# Altium schematic symbol library SCH - MCU - STM32 - ST MICROELECTRONICS STM32F746Z(E-G)YX WLCSP143.SchLib: 1 symbol
Pins are listed as number, name and electrical type; pins without a type are passive.

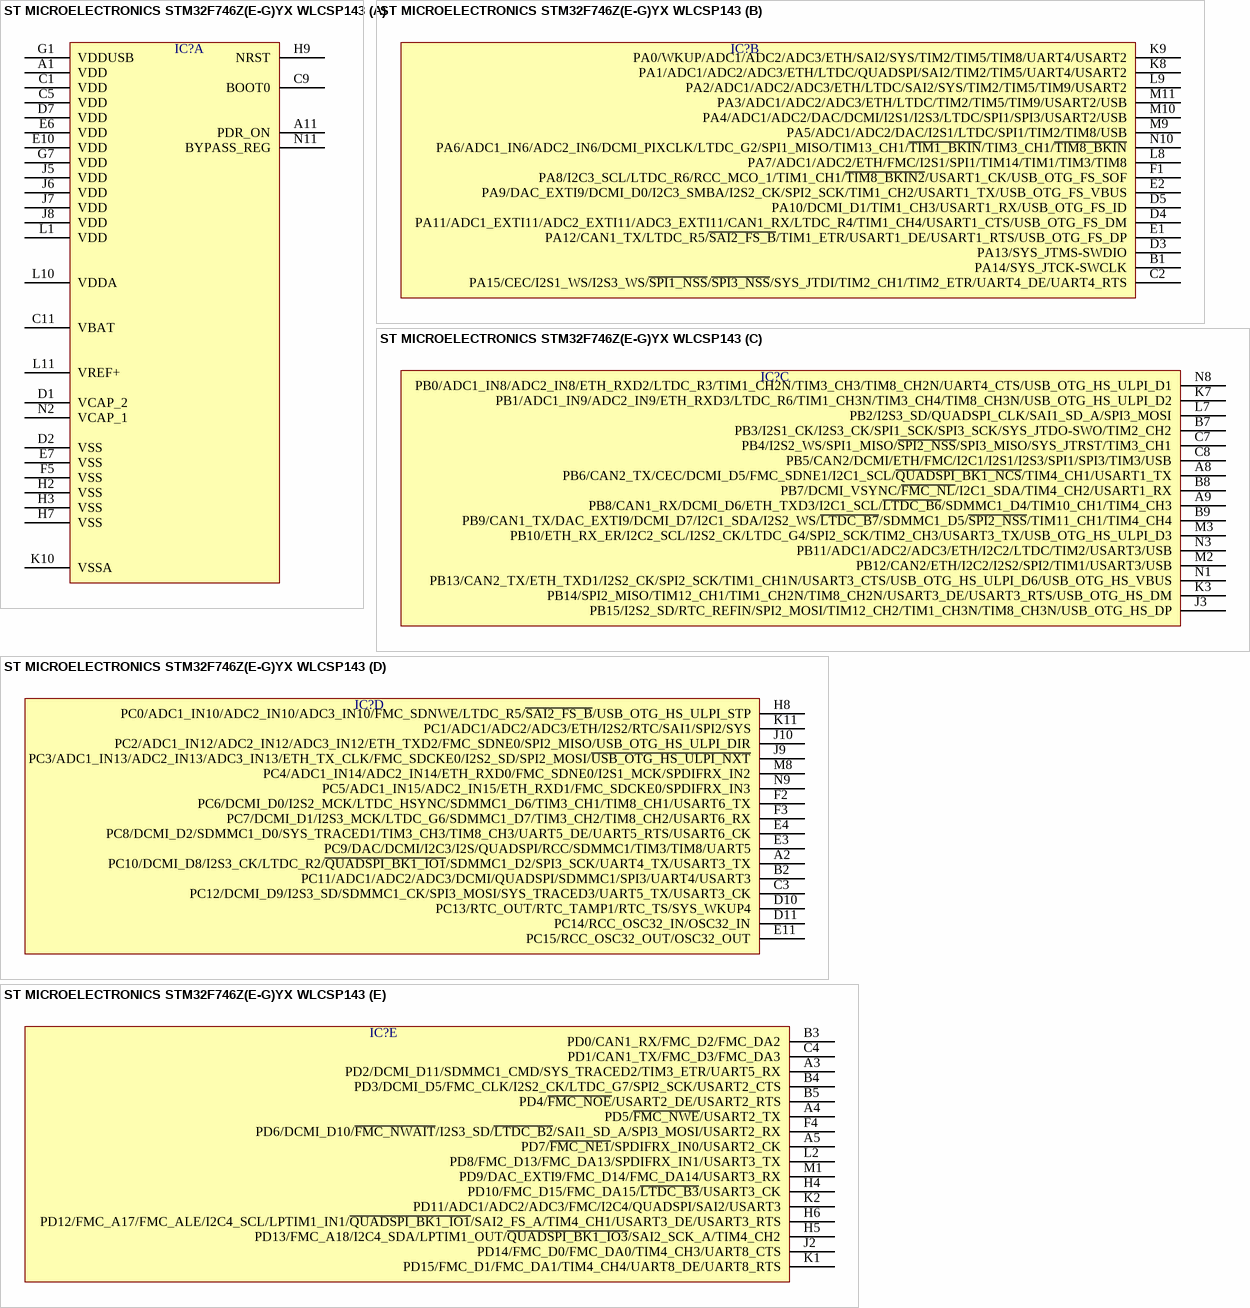
[diagram p0: symbol ST MICROELECTRONICS STM32F746Z(E-G)YX WLCSP143]

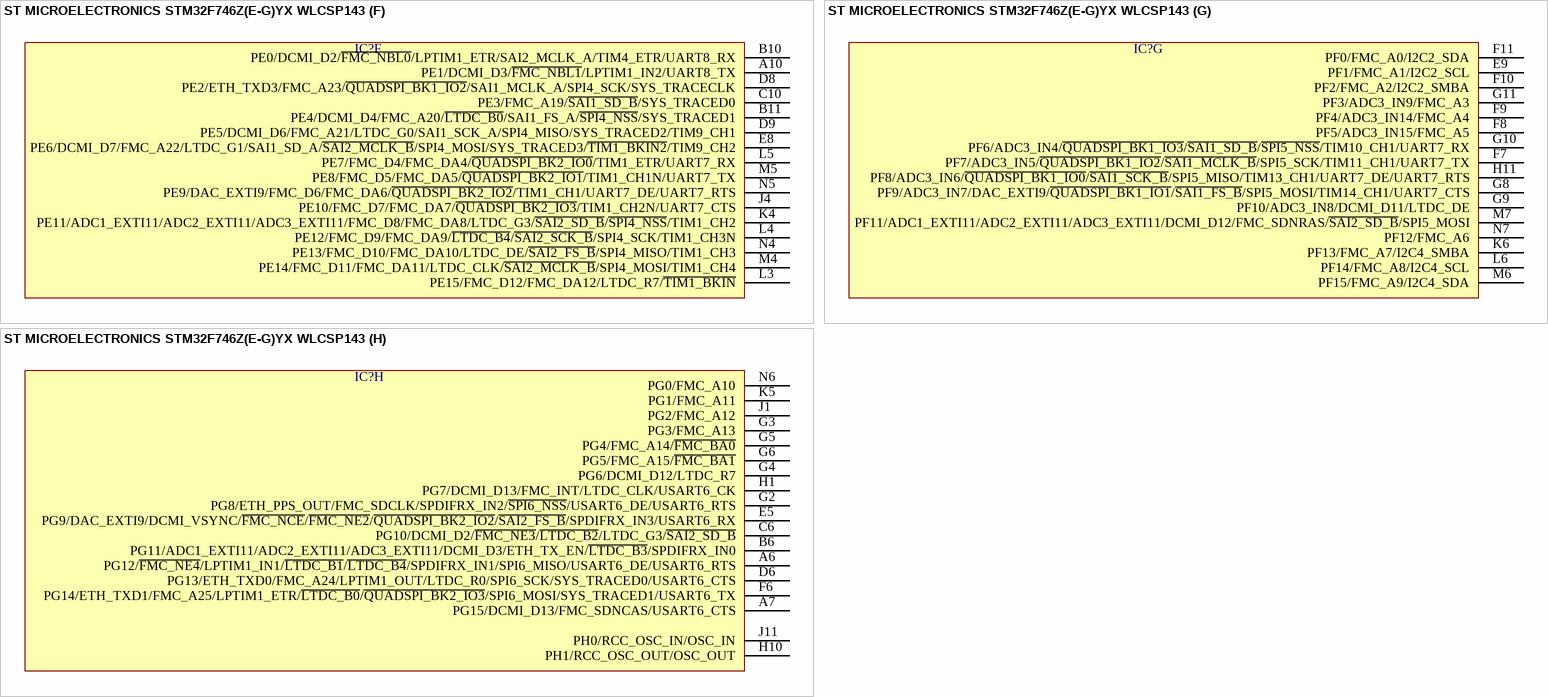
[diagram p1: symbol ST MICROELECTRONICS STM32F746Z(E-G)YX WLCSP143]

## ST MICROELECTRONICS STM32F746Z(E-G)YX WLCSP143
designator IC?  (value not drawn)
part A pins: A1 VDD, A11 PDR_ON, C1 VDD, C5 VDD, C9 BOOT0, C11 VBAT, D1 VCAP_2, D2 VSS, D7 VDD, E6 VDD, E7 VSS, E10 VDD, F5 VSS, G1 VDDUSB, G7 VDD, H2 VSS, H3 VSS, H7 VSS, H9 NRST, J5 VDD, J6 VDD, J7 VDD, J8 VDD, K10 VSSA, L1 VDD, L10 VDDA, L11 VREF+, N2 VCAP_1, N11 BYPASS_REG
part B pins: B1 PA14/SYS_JTCK-SWCLK, C2 PA15/CEC/I2S1_WS/I2S3_WS/~{SPI1_NSS}/~{SPI3_NSS}/SYS_JTDI/TIM2_CH1/TIM2_ETR/UART4_DE/UART4_RTS, D3 PA13/SYS_JTMS-SWDIO, D4 PA11/ADC1_EXTI11/ADC2_EXTI11/ADC3_EXTI11/CAN1_RX/LTDC_R4/TIM1_CH4/USART1_CTS/USB_OTG_FS_DM, D5 PA10/DCMI_D1/TIM1_CH3/USART1_RX/USB_OTG_FS_ID, E1 PA12/CAN1_TX/LTDC_R5/~{SAI2_FS_B}/TIM1_ETR/USART1_DE/USART1_RTS/USB_OTG_FS_DP, E2 PA9/DAC_EXTI9/DCMI_D0/I2C3_SMBA/I2S2_CK/SPI2_SCK/TIM1_CH2/USART1_TX/USB_OTG_FS_VBUS, F1 PA8/I2C3_SCL/LTDC_R6/RCC_MCO_1/TIM1_CH1/~{TIM8_BKIN2}/USART1_CK/USB_OTG_FS_SOF, K8 PA1/ADC1/ADC2/ADC3/ETH/LTDC/QUADSPI/SAI2/TIM2/TIM5/UART4/USART2, K9 PA0/WKUP/ADC1/ADC2/ADC3/ETH/SAI2/SYS/TIM2/TIM5/TIM8/UART4/USART2, L8 PA7/ADC1/ADC2/ETH/FMC/I2S1/SPI1/TIM14/TIM1/TIM3/TIM8, L9 PA2/ADC1/ADC2/ADC3/ETH/LTDC/SAI2/SYS/TIM2/TIM5/TIM9/USART2, M9 PA5/ADC1/ADC2/DAC/I2S1/LTDC/SPI1/TIM2/TIM8/USB, M10 PA4/ADC1/ADC2/DAC/DCMI/I2S1/I2S3/LTDC/SPI1/SPI3/USART2/USB, M11 PA3/ADC1/ADC2/ADC3/ETH/LTDC/TIM2/TIM5/TIM9/USART2/USB, N10 PA6/ADC1_IN6/ADC2_IN6/DCMI_PIXCLK/LTDC_G2/SPI1_MISO/TIM13_CH1/~{TIM1_BKIN}/TIM3_CH1/~{TIM8_BKIN}
part C pins: A8 PB6/CAN2_TX/CEC/DCMI_D5/FMC_SDNE1/I2C1_SCL/~{QUADSPI_BK1_NCS}/TIM4_CH1/USART1_TX, A9 PB8/CAN1_RX/DCMI_D6/ETH_TXD3/I2C1_SCL/~{LTDC_B6}/SDMMC1_D4/TIM10_CH1/TIM4_CH3, B7 PB3/I2S1_CK/I2S3_CK/SPI1_SCK/SPI3_SCK/SYS_JTDO-SWO/TIM2_CH2, B8 PB7/DCMI_VSYNC/~{FMC_NL}/I2C1_SDA/TIM4_CH2/USART1_RX, B9 PB9/CAN1_TX/DAC_EXTI9/DCMI_D7/I2C1_SDA/I2S2_WS/~{LTDC_B7}/SDMMC1_D5/~{SPI2_NSS}/TIM11_CH1/TIM4_CH4, C7 PB4/I2S2_WS/SPI1_MISO/~{SPI2_NSS}/SPI3_MISO/SYS_JTRST/TIM3_CH1, C8 PB5/CAN2/DCMI/ETH/FMC/I2C1/I2S1/I2S3/SPI1/SPI3/TIM3/USB, J3 PB15/I2S2_SD/RTC_REFIN/SPI2_MOSI/TIM12_CH2/TIM1_CH3N/TIM8_CH3N/USB_OTG_HS_DP, K3 PB14/SPI2_MISO/TIM12_CH1/TIM1_CH2N/TIM8_CH2N/USART3_DE/USART3_RTS/USB_OTG_HS_DM, K7 PB1/ADC1_IN9/ADC2_IN9/ETH_RXD3/LTDC_R6/TIM1_CH3N/TIM3_CH4/TIM8_CH3N/USB_OTG_HS_ULPI_D2, L7 PB2/I2S3_SD/QUADSPI_CLK/SAI1_SD_A/SPI3_MOSI, M2 PB12/CAN2/ETH/I2C2/I2S2/SPI2/TIM1/USART3/USB, M3 PB10/ETH_RX_ER/I2C2_SCL/I2S2_CK/LTDC_G4/SPI2_SCK/TIM2_CH3/USART3_TX/USB_OTG_HS_ULPI_D3, N1 PB13/CAN2_TX/ETH_TXD1/I2S2_CK/SPI2_SCK/TIM1_CH1N/USART3_CTS/USB_OTG_HS_ULPI_D6/USB_OTG_HS_VBUS, N3 PB11/ADC1/ADC2/ADC3/ETH/I2C2/LTDC/TIM2/USART3/USB, N8 PB0/ADC1_IN8/ADC2_IN8/ETH_RXD2/LTDC_R3/TIM1_CH2N/TIM3_CH3/TIM8_CH2N/UART4_CTS/USB_OTG_HS_ULPI_D1
part D pins: A2 PC10/DCMI_D8/I2S3_CK/LTDC_R2/~{QUADSPI_BK1_IO1}/SDMMC1_D2/SPI3_SCK/UART4_TX/USART3_TX, B2 PC11/ADC1/ADC2/ADC3/DCMI/QUADSPI/SDMMC1/SPI3/UART4/USART3, C3 PC12/DCMI_D9/I2S3_SD/SDMMC1_CK/SPI3_MOSI/SYS_TRACED3/UART5_TX/USART3_CK, D10 PC13/RTC_OUT/RTC_TAMP1/RTC_TS/SYS_WKUP4, D11 PC14/RCC_OSC32_IN/OSC32_IN, E3 PC9/DAC/DCMI/I2C3/I2S/QUADSPI/RCC/SDMMC1/TIM3/TIM8/UART5, E4 PC8/DCMI_D2/SDMMC1_D0/SYS_TRACED1/TIM3_CH3/TIM8_CH3/UART5_DE/UART5_RTS/USART6_CK, E11 PC15/RCC_OSC32_OUT/OSC32_OUT, F2 PC6/DCMI_D0/I2S2_MCK/LTDC_HSYNC/SDMMC1_D6/TIM3_CH1/TIM8_CH1/USART6_TX, F3 PC7/DCMI_D1/I2S3_MCK/LTDC_G6/SDMMC1_D7/TIM3_CH2/TIM8_CH2/USART6_RX, H8 PC0/ADC1_IN10/ADC2_IN10/ADC3_IN10/FMC_SDNWE/LTDC_R5/~{SAI2_FS_B}/USB_OTG_HS_ULPI_STP, J9 PC3/ADC1_IN13/ADC2_IN13/ADC3_IN13/ETH_TX_CLK/FMC_SDCKE0/I2S2_SD/SPI2_MOSI/~{USB_OTG_HS_ULPI_NXT}, J10 PC2/ADC1_IN12/ADC2_IN12/ADC3_IN12/ETH_TXD2/FMC_SDNE0/SPI2_MISO/USB_OTG_HS_ULPI_DIR, K11 PC1/ADC1/ADC2/ADC3/ETH/I2S2/RTC/SAI1/SPI2/SYS, M8 PC4/ADC1_IN14/ADC2_IN14/ETH_RXD0/FMC_SDNE0/I2S1_MCK/SPDIFRX_IN2, N9 PC5/ADC1_IN15/ADC2_IN15/ETH_RXD1/FMC_SDCKE0/SPDIFRX_IN3
part E pins: A3 PD2/DCMI_D11/SDMMC1_CMD/SYS_TRACED2/TIM3_ETR/UART5_RX, A4 PD5/~{FMC_NWE}/USART2_TX, A5 PD7/~{FMC_NE1}/SPDIFRX_IN0/USART2_CK, B3 PD0/CAN1_RX/FMC_D2/FMC_DA2, B4 PD3/DCMI_D5/FMC_CLK/I2S2_CK/LTDC_G7/SPI2_SCK/USART2_CTS, B5 PD4/~{FMC_NOE}/USART2_DE/USART2_RTS, C4 PD1/CAN1_TX/FMC_D3/FMC_DA3, F4 PD6/DCMI_D10/~{FMC_NWAIT}/I2S3_SD/~{LTDC_B2}/SAI1_SD_A/SPI3_MOSI/USART2_RX, H4 PD10/FMC_D15/FMC_DA15/~{LTDC_B3}/USART3_CK, H5 PD13/FMC_A18/I2C4_SDA/LPTIM1_OUT/~{QUADSPI_BK1_IO3}/SAI2_SCK_A/TIM4_CH2, H6 PD12/FMC_A17/FMC_ALE/I2C4_SCL/LPTIM1_IN1/~{QUADSPI_BK1_IO1}/SAI2_FS_A/TIM4_CH1/USART3_DE/USART3_RTS, J2 PD14/FMC_D0/FMC_DA0/TIM4_CH3/UART8_CTS, K1 PD15/FMC_D1/FMC_DA1/TIM4_CH4/UART8_DE/UART8_RTS, K2 PD11/ADC1/ADC2/ADC3/FMC/I2C4/QUADSPI/SAI2/USART3, L2 PD8/FMC_D13/FMC_DA13/SPDIFRX_IN1/USART3_TX, M1 PD9/DAC_EXTI9/FMC_D14/FMC_DA14/USART3_RX
part F pins: A10 PE1/DCMI_D3/~{FMC_NBL1}/LPTIM1_IN2/UART8_TX, B10 PE0/DCMI_D2/~{FMC_NBL0}/LPTIM1_ETR/SAI2_MCLK_A/TIM4_ETR/UART8_RX, B11 PE4/DCMI_D4/FMC_A20/~{LTDC_B0}/SAI1_FS_A/~{SPI4_NSS}/SYS_TRACED1, C10 PE3/FMC_A19/~{SAI1_SD_B}/SYS_TRACED0, D8 PE2/ETH_TXD3/FMC_A23/~{QUADSPI_BK1_IO2}/SAI1_MCLK_A/SPI4_SCK/SYS_TRACECLK, D9 PE5/DCMI_D6/FMC_A21/LTDC_G0/SAI1_SCK_A/SPI4_MISO/SYS_TRACED2/TIM9_CH1, E8 PE6/DCMI_D7/FMC_A22/LTDC_G1/SAI1_SD_A/~{SAI2_MCLK_B}/SPI4_MOSI/SYS_TRACED3/~{TIM1_BKIN2}/TIM9_CH2, J4 PE10/FMC_D7/FMC_DA7/~{QUADSPI_BK2_IO3}/TIM1_CH2N/UART7_CTS, K4 PE11/ADC1_EXTI11/ADC2_EXTI11/ADC3_EXTI11/FMC_D8/FMC_DA8/LTDC_G3/~{SAI2_SD_B}/~{SPI4_NSS}/TIM1_CH2, L3 PE15/FMC_D12/FMC_DA12/LTDC_R7/~{TIM1_BKIN}, L4 PE12/FMC_D9/FMC_DA9/~{LTDC_B4}/~{SAI2_SCK_B}/SPI4_SCK/TIM1_CH3N, L5 PE7/FMC_D4/FMC_DA4/~{QUADSPI_BK2_IO0}/TIM1_ETR/UART7_RX, M4 PE14/FMC_D11/FMC_DA11/LTDC_CLK/~{SAI2_MCLK_B}/SPI4_MOSI/TIM1_CH4, M5 PE8/FMC_D5/FMC_DA5/~{QUADSPI_BK2_IO1}/TIM1_CH1N/UART7_TX, N4 PE13/FMC_D10/FMC_DA10/LTDC_DE/~{SAI2_FS_B}/SPI4_MISO/TIM1_CH3, N5 PE9/DAC_EXTI9/FMC_D6/FMC_DA6/~{QUADSPI_BK2_IO2}/TIM1_CH1/UART7_DE/UART7_RTS
part G pins: E9 PF1/FMC_A1/I2C2_SCL, F7 PF7/ADC3_IN5/~{QUADSPI_BK1_IO2}/~{SAI1_MCLK_B}/SPI5_SCK/TIM11_CH1/UART7_TX, F8 PF5/ADC3_IN15/FMC_A5, F9 PF4/ADC3_IN14/FMC_A4, F10 PF2/FMC_A2/I2C2_SMBA, F11 PF0/FMC_A0/I2C2_SDA, G8 PF9/ADC3_IN7/DAC_EXTI9/~{QUADSPI_BK1_IO1}/~{SAI1_FS_B}/SPI5_MOSI/TIM14_CH1/UART7_CTS, G9 PF10/ADC3_IN8/DCMI_D11/LTDC_DE, G10 PF6/ADC3_IN4/~{QUADSPI_BK1_IO3}/~{SAI1_SD_B}/~{SPI5_NSS}/TIM10_CH1/UART7_RX, G11 PF3/ADC3_IN9/FMC_A3, H11 PF8/ADC3_IN6/~{QUADSPI_BK1_IO0}/~{SAI1_SCK_B}/SPI5_MISO/TIM13_CH1/UART7_DE/UART7_RTS, K6 PF13/FMC_A7/I2C4_SMBA, L6 PF14/FMC_A8/I2C4_SCL, M6 PF15/FMC_A9/I2C4_SDA, M7 PF11/ADC1_EXTI11/ADC2_EXTI11/ADC3_EXTI11/DCMI_D12/FMC_SDNRAS/~{SAI2_SD_B}/SPI5_MOSI, N7 PF12/FMC_A6
part H pins: A6 PG12/~{FMC_NE4}/LPTIM1_IN1/~{LTDC_B1}/~{LTDC_B4}/SPDIFRX_IN1/SPI6_MISO/USART6_DE/USART6_RTS, A7 PG15/DCMI_D13/FMC_SDNCAS/USART6_CTS, B6 PG11/ADC1_EXTI11/ADC2_EXTI11/ADC3_EXTI11/DCMI_D3/ETH_TX_EN/~{LTDC_B3}/SPDIFRX_IN0, C6 PG10/DCMI_D2/~{FMC_NE3}/~{LTDC_B2}/LTDC_G3/~{SAI2_SD_B}, D6 PG13/ETH_TXD0/FMC_A24/LPTIM1_OUT/LTDC_R0/SPI6_SCK/SYS_TRACED0/USART6_CTS, E5 PG9/DAC_EXTI9/DCMI_VSYNC/~{FMC_NCE}/~{FMC_NE2}/~{QUADSPI_BK2_IO2}/~{SAI2_FS_B}/SPDIFRX_IN3/USART6_RX, F6 PG14/ETH_TXD1/FMC_A25/LPTIM1_ETR/~{LTDC_B0}/~{QUADSPI_BK2_IO3}/SPI6_MOSI/SYS_TRACED1/USART6_TX, G2 PG8/ETH_PPS_OUT/FMC_SDCLK/SPDIFRX_IN2/~{SPI6_NSS}/USART6_DE/USART6_RTS, G3 PG3/FMC_A13, G4 PG6/DCMI_D12/LTDC_R7, G5 PG4/FMC_A14/~{FMC_BA0}, G6 PG5/FMC_A15/~{FMC_BA1}, H1 PG7/DCMI_D13/FMC_INT/LTDC_CLK/USART6_CK, H10 PH1/RCC_OSC_OUT/OSC_OUT, J1 PG2/FMC_A12, J11 PH0/RCC_OSC_IN/OSC_IN, K5 PG1/FMC_A11, N6 PG0/FMC_A10